# Altium schematic symbol library Schlib1.SchLib: 3 symbols
Pins are listed as number, name and electrical type; pins without a type are passive.

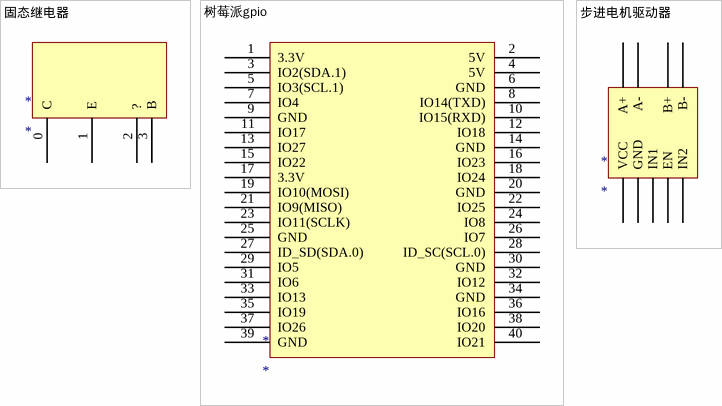
[diagram p0: symbols 固态继电器 to 步进电机驱动器]

## 固态继电器
designator *
pins: 0 C, 1 E, 2 ?, 3 B

## 树莓派gpio
designator *
pins: 1 3.3V, 2 5V, 3 IO2(SDA.1), 4 5V, 5 IO3(SCL.1), 6 GND, 7 IO4, 8 IO14(TXD), 9 GND, 10 IO15(RXD), 11 IO17, 12 IO18, 13 IO27, 14 GND, 15 IO22, 16 IO23, 17 3.3V, 18 IO24, 19 IO10(MOSI), 20 GND, 21 IO9(MISO), 22 IO25, 23 IO11(SCLK), 24 IO8, 25 GND, 26 IO7, 27 ID_SD(SDA.0), 28 ID_SC(SCL.0), 29 IO5, 30 GND, 31 IO6, 32 IO12, 33 IO13, 34 GND, 35 IO19, 36 IO16, 37 IO26, 38 IO20, 39 GND, 40 IO21

## 步进电机驱动器
designator *
pins: 4 VCC, 5 GND, 6 IN1, 7 EN, 8 IN2, 9 A+, 10 A-, 11 B+, 12 B-